# Altium footprint library TRIM_3352T-1-200LF.PcbLib: 1 footprints
Each footprint in its own frame and in the unit in brackets; x right, y up, seen from the top. Pads: shape width x height; smd on the part's side, far side on the other; paste and mask are expansions set on the pad; w line width, h text height; cw(c..) or ccw(c..) is an arc to the next point about the centre after c.
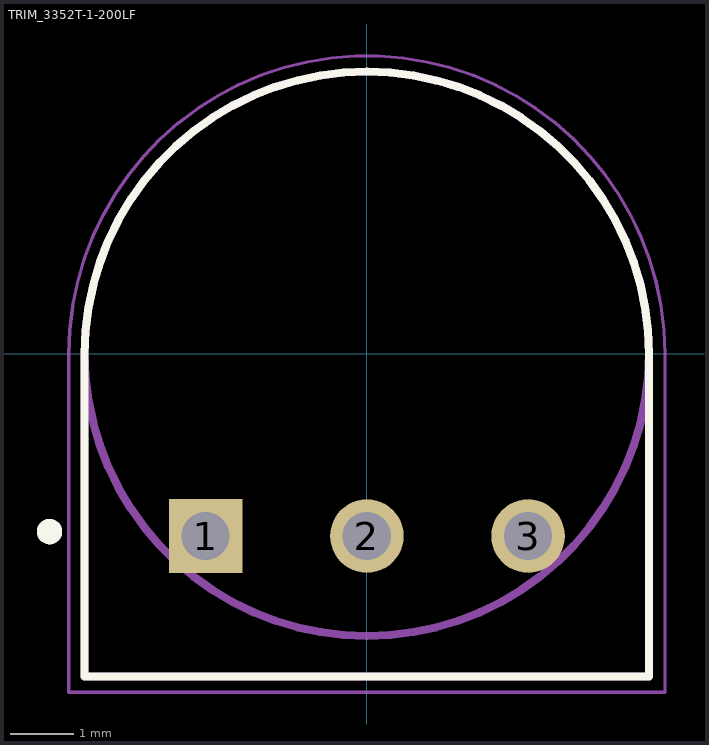
[diagram p0: the footprint, top view; thin cyan lines are the x and y axes]

## TRIM_3352T-1-200LF [mm]
height 4.32
pads (3):
  rect 1.16x1.16 hole 0.76: 1(-2.54,-2.87)
  round 1.16 hole 0.76: 2(0,-2.87) 3(2.54,-2.87)
Top Overlay:
  circle w0.2: c-5,-2.8 r0.1
  lines w0.127: -4.445,-5.08 -4.445,0 cw(c0,0) 4.445,0 4.445,-5.08 -4.445,-5.08
Mechanical 13:
  circle w0.127: c0,0 r4.445
  circle w0.2: c-5,-2.8 r0.1
  lines w0.127: -4.445,0 -4.445,-5.08 4.445,-5.08 4.445,0
Mechanical 15:
  lines w0.05: -4.695,-5.33 -4.695,0 cw(c0,0) 4.695,0 4.695,-5.33 -4.695,-5.33
3D body "step_temp.STEP": height 4.32, standoff -4.75, extent -4.444,-5.08 4.444,4.441